# EAGLE library part FCI_88400_066LF_RJ12_4POS (library FCI_RJ12)
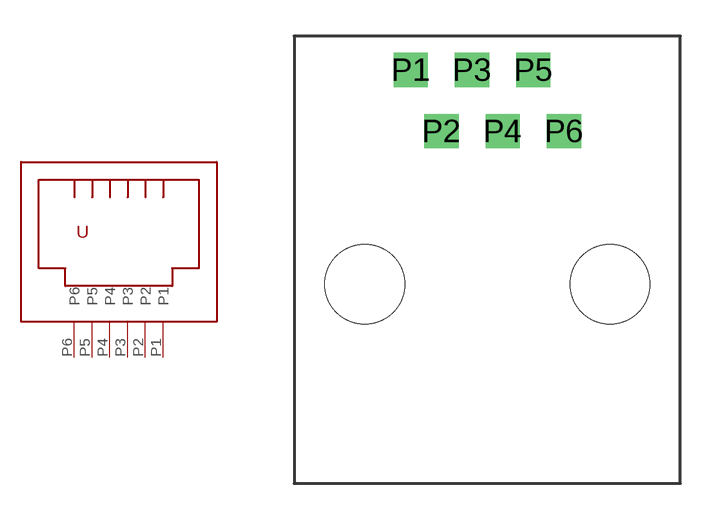
[diagram p0: symbol with the pads of RJ12_RIGHT_ANGLE_PCB; footprint RJ12_RIGHT_ANGLE_PCB]

Designator prefix -

## FCI_88400_066LF_RJ12_4POS  [RJ12_RIGHT_ANGLE_PCB]
P1  P1
P2  P2
P3  P3
P4  P4
P5  P5
P6  P6

## Footprint RJ12_RIGHT_ANGLE_PCB (pad centres in mm)
drill 0.8 pad 1.422 square: P1 -3.175,8.89; P2 -1.905,6.35; P3 -0.635,8.89; P4 0.635,6.35; P5 1.905,8.89; P6 3.175,6.35
hole 3.302 at -5.08,0
hole 3.302 at 5.08,0